# Altium footprint library 20P_HEADER-STD-SHF-110-01-L-D-SM.PcbLib: 1 footprints
Each footprint in its own frame and in the unit in brackets; x right, y up, seen from the top. Pads: shape width x height; smd on the part's side, far side on the other; paste and mask are expansions set on the pad; w line width, h text height; cw(c..) or ccw(c..) is an arc to the next point about the centre after c.
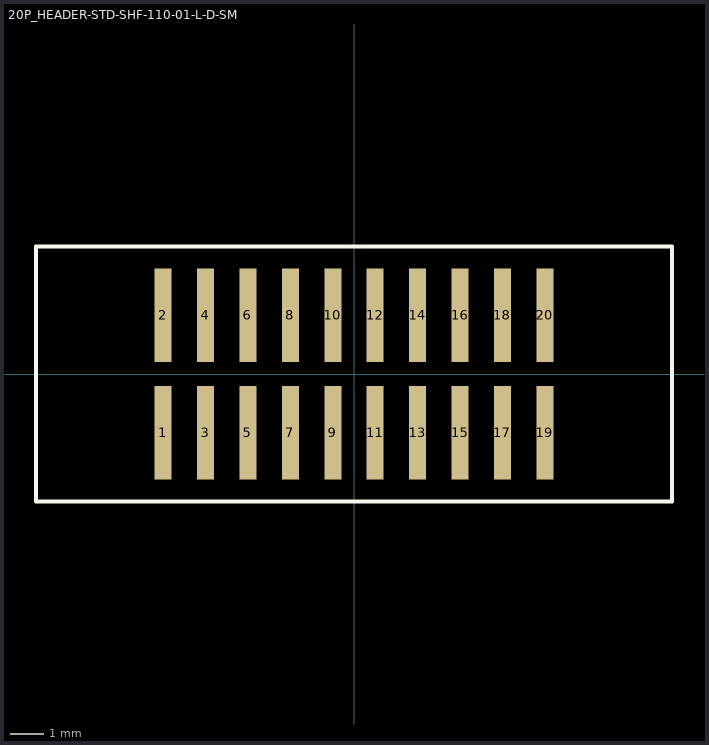
[diagram p0: the footprint, top view; thin cyan lines are the x and y axes]

## 20P_HEADER-STD-SHF-110-01-L-D-SM [mm]
height 5.33
pads (20):
  rect 0.51x2.8 smd: 1(-5.715,-1.76) 2(-5.715,1.76) 3(-4.445,-1.76) 4(-4.445,1.76) 5(-3.175,-1.76) 6(-3.175,1.76) 7(-1.905,-1.76) 8(-1.905,1.76) 9(-0.635,-1.76) 10(-0.635,1.76) 11(0.635,-1.76) 12(0.635,1.76) 13(1.905,-1.76) 14(1.905,1.76) 15(3.175,-1.76) 16(3.175,1.76) 17(4.445,-1.76) 18(4.445,1.76) 19(5.715,-1.76) 20(5.715,1.76)
Top Overlay:
  lines w0.12: -9.525,-3.81 -9.525,3.81 9.525,3.81 9.525,-3.81 -9.525,-3.81
3D body: height 5.59, standoff 0.01, extent -9.525,-3.75 9.525,3.751